# Altium footprint library S06B-PASK-2.PcbLib: 1 footprints
Each footprint in its own frame and in the unit in brackets; x right, y up, seen from the top. Pads: shape width x height; smd on the part's side, far side on the other; paste and mask are expansions set on the pad; w line width, h text height; cw(c..) or ccw(c..) is an arc to the next point about the centre after c.
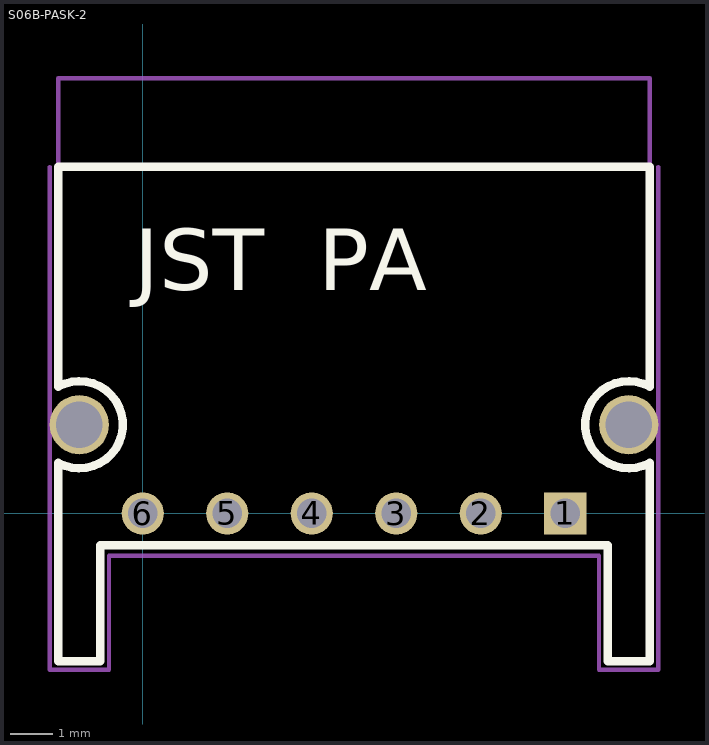
[diagram p0: the footprint, top view; thin cyan lines are the x and y axes]

## S06B-PASK-2 [mm] "JST (JAPAN SOLDERLESS TERMINALS) - S06B-PASK-2 - HEADER, PA, 6WAY, SIDE, 2MM"
height 7
pads (8):
  rect 1x1 hole 0.7: 1(10,0)
  round 1 hole 0.7: 2(8,0) 3(6,0) 4(4,0) 5(2,0) 6(0,0)
  round 1.4 hole 1.1: ""(-1.5,2.1) ""(11.5,2.1)
Top Overlay:
  lines w0.2: -2,-3.5 -2,1.2 ccw(c-1.5,2.1) -2,3 -2,8.2 8,8.2 12,8.2 12,3 ccw(c11.5,2.1) 12,1.2 12,-3.5 11,-3.5 11,-0.75 5.5,-0.75 -1,-0.75 -1,-3.5 -2,-3.5
  text "JST  PA" at -0.2,4.8 h2.5
Mechanical 15:
  lines w0.1: -2.2,8.2 -2.2,-3.7 -0.8,-3.7 -0.8,-1 10.8,-1 10.8,-3.7 12.2,-3.7 12.2,8.2 ; -2,8.2 -2,10.3 12,10.3 12,8.2
3D body: height 6.5, standoff -3.4, extent -2,-3.5 12,8.2